# Altium footprint library 4.28-MX4.2mm 5557&5569连接器.PcbLib: 4 footprints
Each footprint in its own frame and in the unit in brackets; x right, y up, seen from the top. Pads: shape width x height; smd on the part's side, far side on the other; paste and mask are expansions set on the pad; w line width, h text height; cw(c..) or ccw(c..) is an arc to the next point about the centre after c.
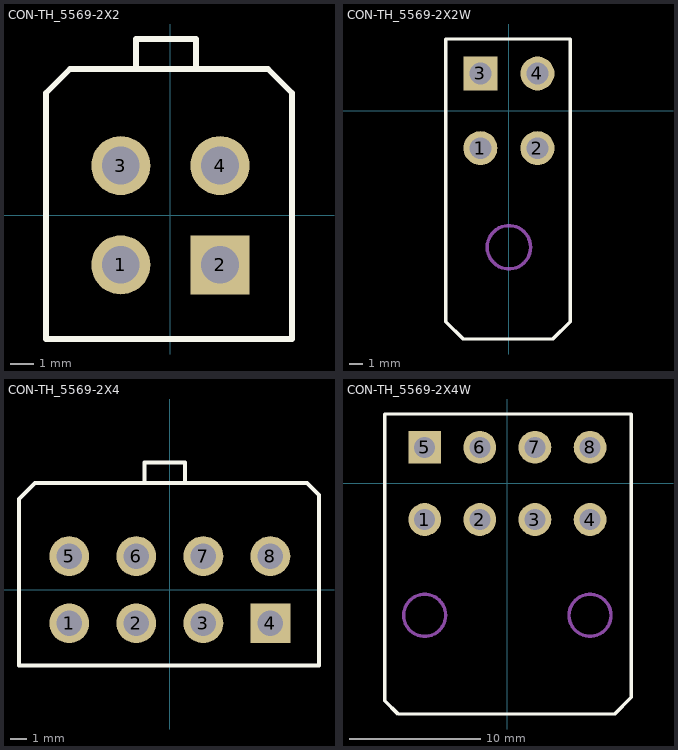
[diagram p0: the footprints below, top view; thin cyan lines are the x and y axes]

## CON-TH_5569-2X2 [mm] "MX4.2mm立式"
pads (4):
  round 2.5 hole 1.6: 1(-2.1,-2.1) 3(-2.1,2.1) 4(2.1,2.1)
  rect 2.5x2.5 hole 1.6: 2(2.1,-2.1)
Top Overlay:
  lines w0.254: -1.456,6.19 -1.456,7.46 1.084,7.46 1.084,6.19 ; -5.266,-5.24 5.148,-5.24 5.148,5.174 4.132,6.19 -4.25,6.19 -5.266,5.174 -5.266,-5.24
3D body: height 12.8, standoff -3.5, extent -5.4,-4.9 5,6.1

## CON-TH_5569-2X2W [mm] "MX4.2mm卧式"
pads (4):
  round 2.5 hole 1.6: 1(-2.1,-2.75) 2(2.1,-2.75) 4(2.1,2.75)
  rect 2.5x2.5 hole 1.6: 3(-2.1,2.75)
Top Overlay:
  lines w0.254: -4.64,-15.538 -4.64,5.29 4.504,5.29 4.504,-15.538 3.234,-16.808 -3.37,-16.808 -4.64,-15.538
Mechanical 1:
  circle w0.254: c0,-10.05 r1.6
3D body: height 11.4, standoff -3.6, extent -4.988,-16.615 5.012,3.32

## CON-TH_5569-2X4 [mm] "MX4.2mm立式"
pads (8):
  round 2.5 hole 1.6: 1(-6.3,-2.1) 2(-2.1,-2.1) 3(2.1,-2.1) 5(-6.3,2.1) 6(-2.1,2.1) 7(2.1,2.1) 8(6.3,2.1)
  rect 2.5x2.5 hole 1.6: 4(6.3,-2.1)
Top Overlay:
  lines w0.254: -1.574,6.69 -1.574,7.96 0.966,7.96 0.966,6.69 ; -9.448,-4.74 9.348,-4.74 9.348,5.936 8.594,6.69 -8.432,6.69 -9.448,5.674 -9.448,-4.74
3D body: height 2.99, standoff -13.31, extent -9.4,-4.8 9.4,6.2

## CON-TH_5569-2X4W [mm] "MX4.2mm卧式"
pads (8):
  round 2.5 hole 1.6: 1(-6.3,-2.75) 2(-2.1,-2.75) 3(2.1,-2.75) 4(6.3,-2.75) 6(-2.1,2.75) 7(2.1,2.75) 8(6.3,2.75)
  rect 2.5x2.5 hole 1.6: 5(-6.3,2.75)
Top Overlay:
  lines w0.254: -9.348,-16.554 -8.332,-17.57 8.178,-17.57 9.448,-16.3 9.448,-5.124 9.448,5.29 -9.348,5.29 -9.348,-16.554
Mechanical 1:
  circle w0.254: c6.3,-10.05 r1.6
  circle w0.254: c-6.3,-10.05 r1.6
3D body: height 11.4, standoff -3.6, extent -8.9,-16.667 9.5,3.268